# Altium schematic symbol library libAaron.SchLib: 2 symbols
Pins are listed as number, name and electrical type; pins without a type are passive.

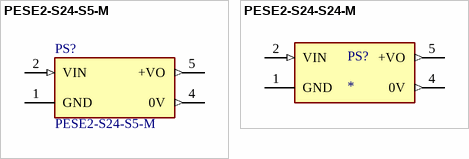
[diagram p0: symbols PESE2-S24-S5-M to PESE2-S24-S24-M]

## PESE2-S24-S5-M
designator PS?
2 W, 1:1 Input Range, Single Unregulated Output, SMT, 3000 Vdc Isolation, Dc-Dc Converter; MP: PESE2-S24-S5-M-TR; MF: CUI Inc.; Package: None; CUI_purchase_URL: https://www.cui.com/product/dc-dc-converters/isolated/pese2-m-series?utm_source=snapeda.com&utm_medium=referral&utm_campaign=snapedaBOM; Check_prices: https://www.snapeda.com/parts/PESE2-S24-S5-M-TR/CUI/view-part/?ref=eda; Purchase-URL: https://pricing.snapeda.com/search/part/PESE2-S24-S5-M-TR/?ref=eda; Value: *; Availability: In Stock; Price: None; SnapEDA_Link: https://www.snapeda.com/parts/PESE2-S24-S5-M-TR/CUI/view-part/?ref=snap
footprint CONV_PESE2-S24-S5-M (Footprint not found)
footprint Model Name (Footprint not found)
pins: 1 GND (power), 2 VIN (in), 4 0V (out), 5 +VO (out)

## PESE2-S24-S24-M
designator PS?
MF: {'manufacturer': u'CUI'}; MP: PESE2-S24-S24-M; Price: None; Package: None; Availability: Unavailable; Value: *
footprint CONV_PESE2-S24-S24-M
pins: 1 GND (power), 2 VIN (in), 4 0V (out), 5 +VO (out)